# Altium footprint library STM32F407ZGT6(Mini)核心板--PCB封装库.PcbLib: 22 footprints (part 1 of 2)
Each footprint in its own frame and in the unit in brackets; x right, y up, seen from the top. Pads: shape width x height; smd on the part's side, far side on the other; paste and mask are expansions set on the pad; w line width, h text height; cw(c..) or ccw(c..) is an arc to the next point about the centre after c.
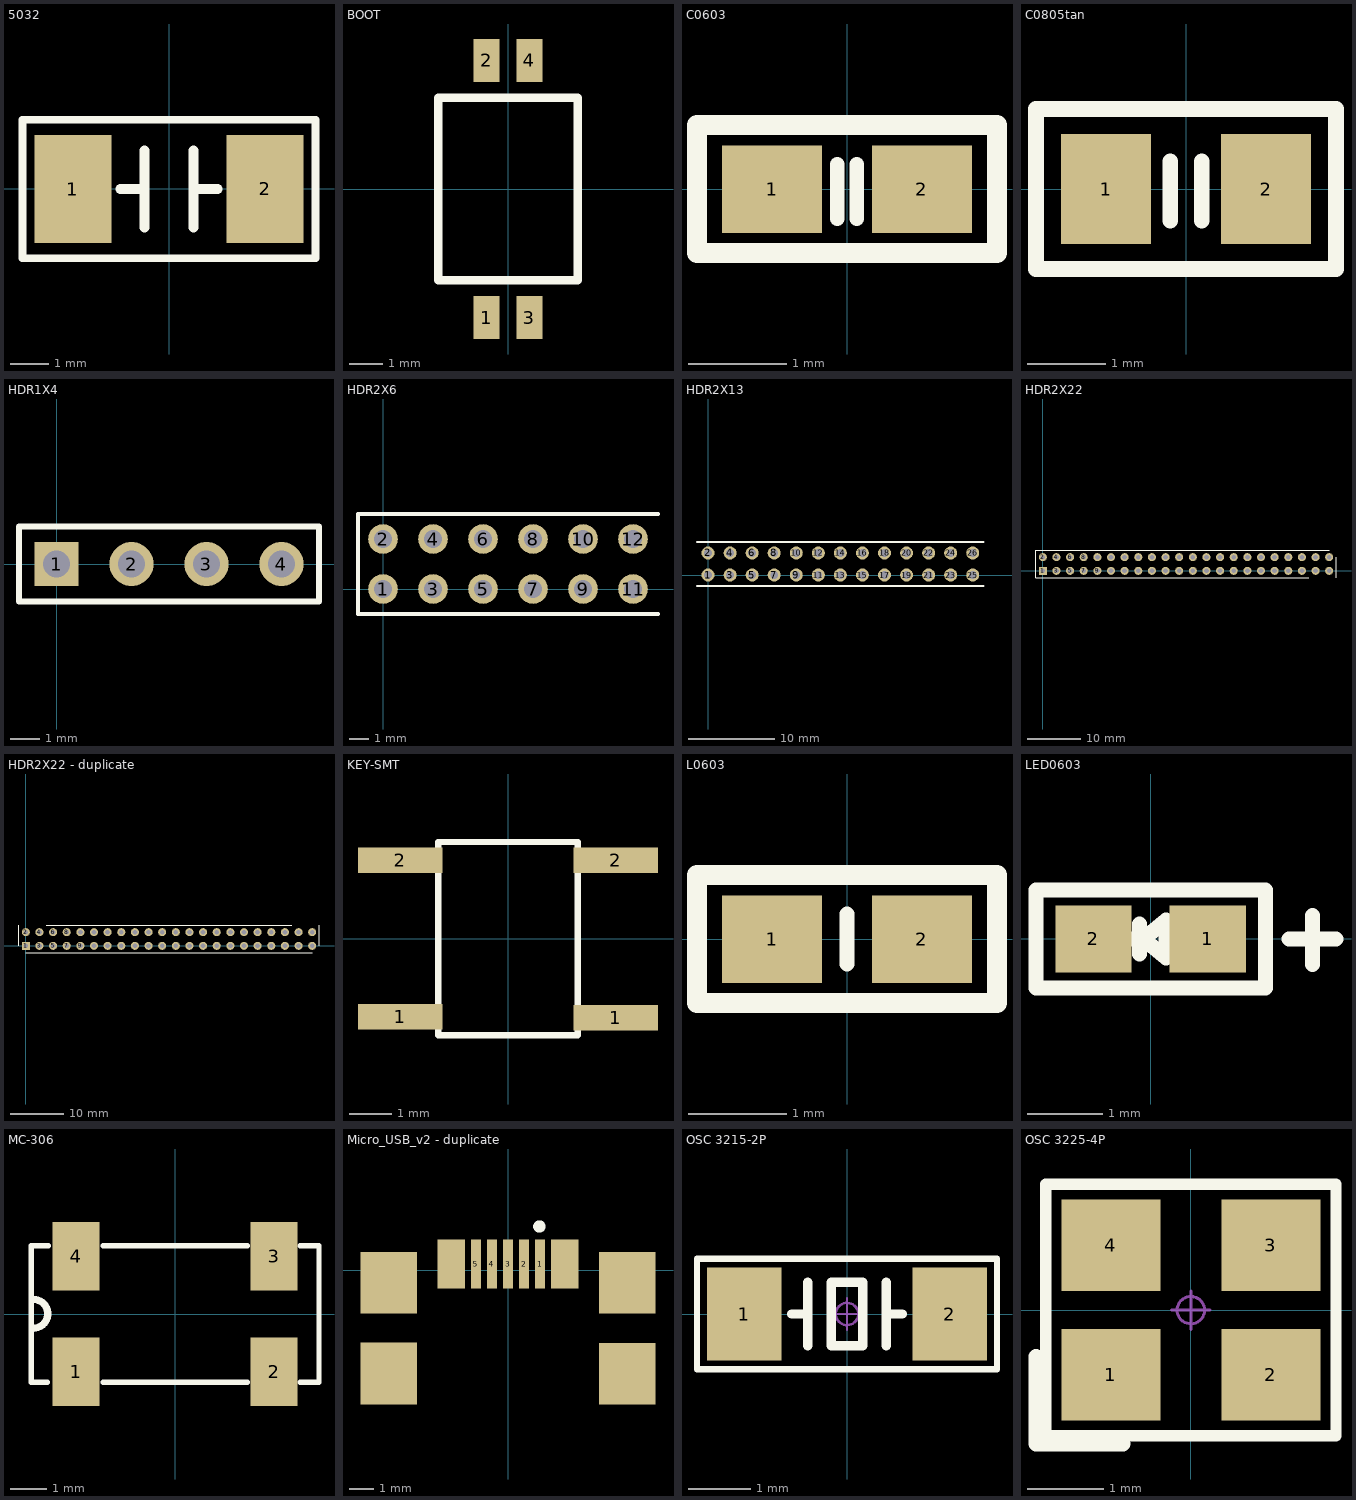
[diagram p0: the footprints below, top view; thin cyan lines are the x and y axes]

## 5032 [mm]
height 4.32
pads (2):
  rect 2x2.8 smd: 1(-2.5,0) 2(2.5,0)
Top Overlay:
  lines w0.2: -3.81,-1.8 3.81,-1.8 3.81,1.8 -3.81,1.8 -3.81,-1.8
  lines w0.254: -1.27,0 -0.635,0 ; -0.635,-1 -0.635,1 ; 0.635,-1 0.635,1 ; 0.635,0 1.27,0

## BOOT [mm]
height 1.73
pads (4):
  rect 0.76x1.27 smd: 1(-0.635,-3.81) 2(-0.635,3.81) 3(0.635,-3.81) 4(0.635,3.81)
Top Overlay:
  lines w0.254: -2.07,-2.7 -2.07,2.7 2.07,2.7 2.07,-2.7 -2.07,-2.7

## C0603 [mil]
height 47.24
pads (2):
  rect 40x35 smd: 1(-29.92,0) 2(29.92,0)
Top Overlay:
  lines w5.91: -3.94,-11.81 -3.94,9.84 ; 3.94,-11.81 3.94,9.84
  lines w7.87: -60,-25.59 60,-25.59 60,25.59 -60,25.59 -60,-25.59

## C0805tan [mil]
height 104.33
pads (2):
  rect 45x55 smd: 1(-40,0) 2(40,0)
Top Overlay:
  lines w7.87: -7.87,-15.75 -7.87,13.78 ; 7.87,-15.75 7.87,13.78 ; -75,-40 -75,40 75,40 75,-40 -75,-40

## HDR1X4 [mm]
height 4.32
pads (4):
  rect 1.5x1.5 hole 0.9: 1(0,0)
  round 1.5 hole 0.9: 2(2.54,0) 3(5.08,0) 4(7.62,0)
Top Overlay:
  lines w0.2: -1.27,-1.27 8.89,-1.27 8.89,1.27 -1.27,1.27 -1.27,-1.27

## HDR2X6 [mm]
pads (12):
  round 1.5 hole 0.9: 1(0,0) 2(0,2.54) 3(2.54,0) 4(2.54,2.54) 5(5.08,0) 6(5.08,2.54) 7(7.62,0) 8(7.62,2.54) 9(10.16,0) 10(10.16,2.54) 11(12.7,0) 12(12.7,2.54)
Top Overlay:
  lines w0.2: 13.97,-1.27 -1.27,-1.27 -1.27,3.81 13.97,3.81

## HDR2X13 [mm]
pads (26):
  round 1.5 hole 0.9: 1(0,0) 2(0,2.54) 3(2.54,0) 4(2.54,2.54) 5(5.08,0) 6(5.08,2.54) 7(7.62,0) 8(7.62,2.54) 9(10.16,0) 10(10.16,2.54) 11(12.7,0) 12(12.7,2.54) 13(15.24,0) 14(15.24,2.54) 15(17.78,0) 16(17.78,2.54) 17(20.32,0) 18(20.32,2.54) 19(22.86,0) 20(22.86,2.54) 21(25.4,0) 22(25.4,2.54) 23(27.94,0) 24(27.94,2.54) 25(30.48,0) 26(30.48,2.54)
Top Overlay:
  lines w0.2: -1.27,-1.27 31.75,-1.27 ; -1.27,3.81 31.75,3.81

## HDR2X22 [mm]
pads (44):
  rect 1.5x1.5 hole 0.9: 1(0,0)
  round 1.5 hole 0.9: 2(0,2.54) 3(2.54,0) 4(2.54,2.54) 5(5.08,0) 6(5.08,2.54) 7(7.62,0) 8(7.62,2.54) 9(10.16,0) 10(10.16,2.54) 11(12.7,0) 12(12.7,2.54) 13(15.24,0) 14(15.24,2.54) 15(17.78,0) 16(17.78,2.54) 17(20.32,0) 18(20.32,2.54) 19(22.86,0) 20(22.86,2.54) 21(25.4,0) 22(25.4,2.54) 23(27.94,0) 24(27.94,2.54) 25(30.48,0) 26(30.48,2.54) 27(33.02,0) 28(33.02,2.54) 29(35.56,0) 30(35.56,2.54) 31(38.1,0) 32(38.1,2.54) 33(40.64,0) 34(40.64,2.54) 35(43.18,0) 36(43.18,2.54) 37(45.72,0) 38(45.72,2.54) 39(48.26,0) 40(48.26,2.54) 41(50.8,0) 42(50.8,2.54) 43(53.34,0) 44(53.34,2.54)
Top Overlay:
  lines w0.2: 49.53,-1.27 -1.27,-1.27 -1.27,3.81 53.34,3.81 ; 54.61,-1.27 54.61,2.54

## HDR2X22 - duplicate [mm]
pads (44):
  rect 1.5x1.5 hole 0.9: 1(0,0)
  round 1.5 hole 0.9: 2(0,2.54) 3(2.54,0) 4(2.54,2.54) 5(5.08,0) 6(5.08,2.54) 7(7.62,0) 8(7.62,2.54) 9(10.16,0) 10(10.16,2.54) 11(12.7,0) 12(12.7,2.54) 13(15.24,0) 14(15.24,2.54) 15(17.78,0) 16(17.78,2.54) 17(20.32,0) 18(20.32,2.54) 19(22.86,0) 20(22.86,2.54) 21(25.4,0) 22(25.4,2.54) 23(27.94,0) 24(27.94,2.54) 25(30.48,0) 26(30.48,2.54) 27(33.02,0) 28(33.02,2.54) 29(35.56,0) 30(35.56,2.54) 31(38.1,0) 32(38.1,2.54) 33(40.64,0) 34(40.64,2.54) 35(43.18,0) 36(43.18,2.54) 37(45.72,0) 38(45.72,2.54) 39(48.26,0) 40(48.26,2.54) 41(50.8,0) 42(50.8,2.54) 43(53.34,0) 44(53.34,2.54)
Top Overlay:
  lines w0.2: -1.27,0 -1.27,3.81 ; 0,-1.27 53.34,-1.27 ; 3.81,3.81 49.53,3.81 ; 54.61,0 54.61,3.81

## KEY-SMT [mm]
height 4.32
pads (4):
  rect 2x0.6 smd: 1(-2.55,-1.85) 1(2.55,-1.87) 2(-2.55,1.85) 2(2.55,1.85)
Top Overlay:
  lines w0.152: -1.651,-2.286 -1.651,2.286 1.651,2.286 1.651,-2.286 -1.651,-2.286

## L0603 [mil]
height 170.08
pads (2):
  rect 40x35 smd: 1(-29.92,0) 2(29.92,0)
Top Overlay:
  lines w5.91: 0,-10 0,10
  lines w7.87: -60,-25.59 60,-25.59 60,25.59 -60,25.59 -60,-25.59

## LED0603 [mil]
height 170.08
pads (2):
  rect 40x35 smd: 1(29.92,0) 2(-29.92,0)
Top Overlay:
  lines w7.87: -11.69,0 -3.81,0 ; -5.78,-7.87 -5.78,7.87 ; 8,0 15.87,0 ; 72.41,0 97,0 ; 84.64,-13.41 84.64,12.19 ; -3.81,0 8,9.84 8,-9.84 -3.81,0 ; -60,-25.59 -60,25.59 60,25.59 60,-25.59 -60,-25.59

## MC-306 [mm]
height 1.6
pads (4):
  rect 1.3x1.9 smd: 1(-2.75,-1.6) 2(2.75,-1.6) 3(2.75,1.6) 4(-2.75,1.6)
Top Overlay:
  lines w0.152: -3.556,-1.9 -4,-1.9 -4,1.9 -3.531,1.9 ; -2,-1.9 2,-1.9 ; -2,1.9 2,1.9 ; 3.48,-1.9 4,-1.9 4,1.9 3.48,1.9
  lines w0.2: -3.937,-0.394 ccw(c-3.937,0.006) -3.937,0.406

## Micro_USB_v2 - duplicate [mm]
height 1.05
pads (11):
  rect 0.4x2 smd: 1(1.3,0.254) 2(0.65,0.254) 3(0,0.254) 4(-0.65,0.254) 5(-1.3,0.254)
  rect 2.3x2.5 smd: ""(-4.826,-4.175) ""(-4.826,-0.508) ""(4.826,-4.191) ""(4.826,-0.508)
  rect 1.1x2 smd: ""(-2.3,0.254) ""(2.3,0.254)
Top Overlay:
  circle w0.25: c1.272,1.778 r0.125
Keep-Out Layer:
  lines w0.6: -5.125,-0.635 -5.125,-0.262 ; -5.12,-4.335 -5.12,-3.962 ; 5.125,-4.445 5.125,-3.962 ; 5.125,-0.762 5.125,-0.262

## OSC 3215-2P [mm] "3.2*1.5*0.6mm(长宽高)"
pads (2):
  rect 1.2x1.5 smd: 1(-1.65,0) 2(1.65,0)
Top Overlay:
  lines w0.1: -2.413,-0.889 -2.413,0.889 2.413,0.889 2.413,-0.889 -2.413,-0.889
  lines w0.152: -0.889,0 -0.635,0 ; -0.635,-0.508 -0.635,0.508 ; 0.635,-0.508 0.635,0.508 ; 0.635,0 0.889,0 ; -0.254,-0.508 0.254,-0.508 0.254,0.508 -0.254,0.508 -0.254,-0.508
Mechanical 15:
  circle w0.04: c0,0 r0.18
  lines w0.04: -0.254,0 0.254,0 ; 0,-0.254 0,0.254
3D body "OSC 3215-2.STEP": height 0.61, standoff -0.01, extent -1.6,-0.75 1.6,0.75

## OSC 3225-4P [mm] "3.2*2.5*0.7mm(长宽高)"
pads (4):
  rect 1.3x1.2 smd: 1(-1.05,-0.85) 2(1.05,-0.85) 3(1.05,0.85) 4(-1.05,0.85)
Top Overlay:
  lines w0.15: -1.905,-1.651 -1.905,1.651 1.905,1.651 1.905,-1.651 -1.905,-1.651
  lines w0.2: -2.032,-1.753 -0.889,-1.753 ; -2.032,-1.727 -2.032,-0.61
Mechanical 15:
  circle w0.04: c0,0 r0.18
  lines w0.04: -0.254,0 0.254,0 ; 0,-0.254 0,0.254
3D body "OSC 3225-4.STEP": height 0.7, standoff -0.02, extent -1.6,-1.25 1.6,1.25